# Altium schematic symbol library 395111003.SchLib: 1 symbol
Pins are listed as number, name and electrical type; pins without a type are passive.

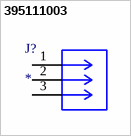
[diagram p0: symbol 395111003]

## 395111003
designator J?
3 Position Terminal Block Header, Male Pins, Shrouded (4 Side) 0.150 (3.81mm) Vertical Through Hole; MF: Molex; MP: 395111003; SnapEDA_Link: https://www.snapeda.com/parts/395111003/Molex/view-part/?ref=snap; Package: None; Value: *; Check_prices: https://www.snapeda.com/parts/395111003/Molex/view-part/?ref=eda
footprint CONN_SD-39511-001_03P_MOL
pins: 1, 2, 3